# Altium integrated library PMIC-MIC5205-3.3YMSTR_SOT23-5_.IntLib: 1 symbol
Pins are listed as number, name and electrical type; pins without a type are passive.

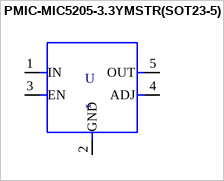
[diagram p0: symbol PMIC-MIC5205-3.3YMSTR(SOT23-5)]

## PMIC-MIC5205-3.3YMSTR(SOT23-5)
designator U
Linear Voltage Regulator IC 1 Output 150mA SOT-23-5; MP: MIC5205-3.3YM5-TR; MF: Microchip; SnapEDA_Link: https://www.snapeda.com/parts/MIC5205-3.3YM5-TR/Microchip/view-part/424295/?ref=snap; Value: *; Package: SOT-23-5 Microchip; Digi-Key_Part_Number: 576-1259-1-ND; Digi-Key_Purchase_URL: https://www.digikey.in/product-detail/en/microchip-technology/MIC5205-3.3YM5-TR/576-1259-1-ND/771886?utm_source=snapeda&utm_medium=aggregator&utm_campaign=symbol
footprint SOT-23-5
pins: 1 IN (io), 2 GND (io), 3 EN (io), 4 ADJ (io), 5 OUT (io)